# EAGLE library part MURATA_CMWX1ZZABZ-078 (library Upverter Library)
General ISM < 1GHz LoRa™ Transceiver Module 868MHz, 915MHz Surface Mount
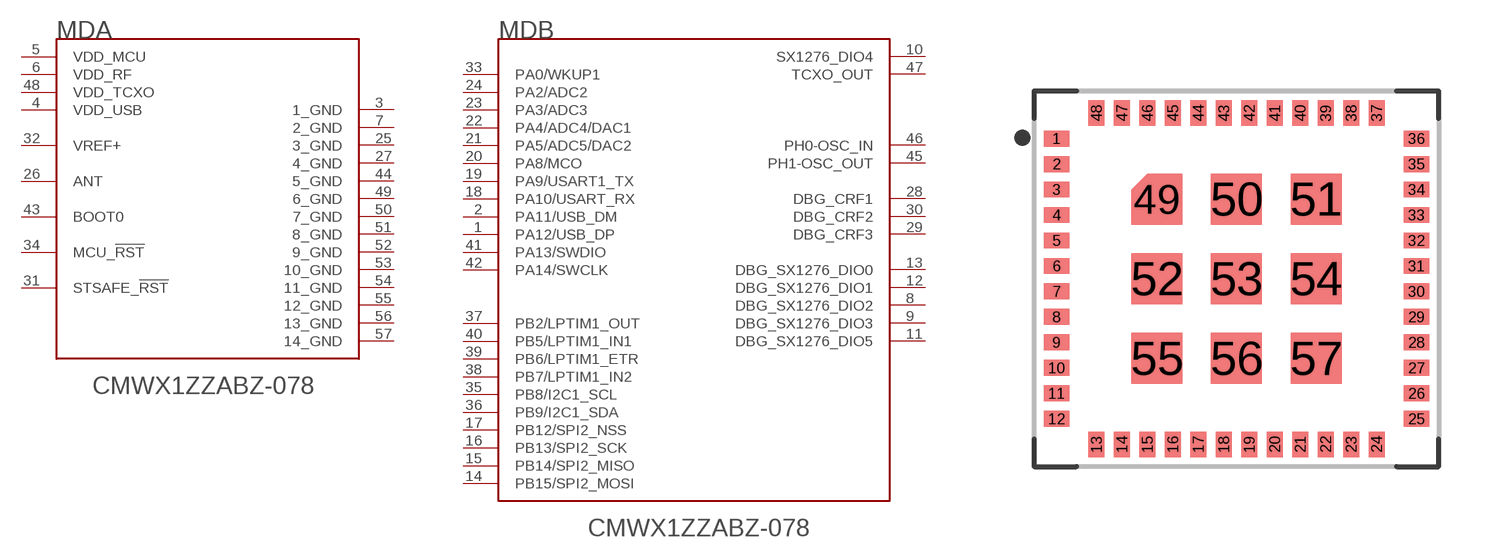
[diagram p0: symbol with the pads of MURATA_CMWX1ZZABZ-078_0; footprint MURATA_CMWX1ZZABZ-078_0]

Designator prefix MD; gates A=MURATA_CMWX1ZZABZ-078_0_0 B=MURATA_CMWX1ZZABZ-078_0_1

## MURATA_CMWX1ZZABZ-078MURATA_CMWX1ZZABZ-078_0_0 (MF: Murata; MPN: CMWX1ZZABZ-078; automotive: No; bandwidth: 47MHz; centroid_not_specified: No; datasheet: https://d3s5r33r268y59.cloudfront.net/datasheets/9465/2017-04-18-03-35-57/typeABZ_datasheet.pdf; device_class_L1: Integrated Circuits (ICs); device_class_L2: RF Semiconductors and Devices; device_class_L3: Transceivers; digikey_description: UNK LORA MODULE; digikey_part_number: 490-16143-1-ND; footprint_variant_name_0: Recommended_Land_Pattern; height: 1.76mm; interface: I2C,SPI,UART,USB; lead_free: Yes; max_frequency: 915MHz; max_supply_voltage: 3.6V; mfg_package_ident: CMWX1ZZABZ-078; mfg_package_ident_date: 0; mfg_package_ident_rev: 0; min_supply_voltage: 1.8V; mouser_part_number: 81-CMWX1ZZABZ-078; package: SMD_MODULE_12MM5_11MM6; prefix: MD; receiving_current: 21.5-23.6mA; rohs: Yes; sensitivity: -133dBm; temperature_range_high: +85°C; temperature_range_low: -40°C; transmitting_current: 36-128mA; verification_version: 0.0.0.3)  [MURATA_CMWX1ZZABZ-078_0]
1  B:PA12/USB_DP
2  B:PA11/USB_DM
3  A:1_GND  pwr
4  A:VDD_USB  pwr
5  A:VDD_MCU  pwr
6  A:VDD_RF  pwr
7  A:2_GND  pwr
8  B:DBG_SX1276_DIO2
9  B:DBG_SX1276_DIO3
10  B:SX1276_DIO4
11  B:DBG_SX1276_DIO5
12  B:DBG_SX1276_DIO1
13  B:DBG_SX1276_DIO0
14  B:PB15/SPI2_MOSI
15  B:PB14/SPI2_MISO
16  B:PB13/SPI2_SCK
17  B:PB12/SPI2_NSS
18  B:PA10/USART_RX
19  B:PA9/USART1_TX
20  B:PA8/MCO
21  B:PA5/ADC5/DAC2
22  B:PA4/ADC4/DAC1
23  B:PA3/ADC3
24  B:PA2/ADC2
25  A:3_GND  pwr
26  A:ANT
27  A:4_GND  pwr
28  B:DBG_CRF1
29  B:DBG_CRF3
30  B:DBG_CRF2
31  A:STSAFE_!RST!
32  A:VREF+  pwr
33  B:PA0/WKUP1
34  A:MCU_!RST!
35  B:PB8/I2C1_SCL
36  B:PB9/I2C1_SDA
37  B:PB2/LPTIM1_OUT
38  B:PB7/LPTIM1_IN2
39  B:PB6/LPTIM1_ETR
40  B:PB5/LPTIM1_IN1
41  B:PA13/SWDIO
42  B:PA14/SWCLK
43  A:BOOT0  in
44  A:5_GND  pwr
45  B:PH1-OSC_OUT
46  B:PH0-OSC_IN
47  B:TCXO_OUT  out
48  A:VDD_TCXO  pwr
49  A:6_GND  pwr
50  A:7_GND  pwr
51  A:8_GND  pwr
52  A:9_GND  pwr
53  A:10_GND  pwr
54  A:11_GND  pwr
55  A:12_GND  pwr
56  A:13_GND  pwr
57  A:14_GND  pwr

## Footprint MURATA_CMWX1ZZABZ-078_0 (pad centres in mm)
General ISM < 1GHz LoRa™ Transceiver Module 868MHz, 915MHz Surface Mount
smd 0.8 x 0.5: 1 -5.65,4.4; 2 -5.65,3.6; 3 -5.65,2.8; 4 -5.65,2; 5 -5.65,1.2; 6 -5.65,0.4; 7 -5.65,-0.4; 8 -5.65,-1.2; 9 -5.65,-2; 10 -5.65,-2.8; 11 -5.65,-3.6; 12 -5.65,-4.4; 25 5.65,-4.4; 26 5.65,-3.6; 27 5.65,-2.8; 28 5.65,-2; 29 5.65,-1.2; 30 5.65,-0.4; 31 5.65,0.4; 32 5.65,1.2; 33 5.65,2; 34 5.65,2.8; 35 5.65,3.6; 36 5.65,4.4
smd 0.5 x 0.8: 13 -4.4,-5.2; 14 -3.6,-5.2; 15 -2.8,-5.2; 16 -2,-5.2; 17 -1.2,-5.2; 18 -0.4,-5.2; 19 0.4,-5.2; 20 1.2,-5.2; 21 2,-5.2; 22 2.8,-5.2; 23 3.6,-5.2; 24 4.4,-5.2; 37 4.4,5.2; 38 3.6,5.2; 39 2.8,5.2; 40 2,5.2; 41 1.2,5.2; 42 0.4,5.2; 43 -0.4,5.2; 44 -1.2,5.2; 45 -2,5.2; 46 -2.8,5.2; 47 -3.6,5.2; 48 -4.4,5.2
smd 1.4 x 1.4: 49 -2.5,2.5
smd 1.6 x 1.6: 50 0,2.5; 51 2.5,2.5; 52 -2.5,0; 53 0,0; 54 2.5,0; 55 -2.5,-2.5; 56 0,-2.5; 57 2.5,-2.5